# Altium schematic symbol library TSW-116-23-S-S-LL.SchLib: 1 symbol
Pins are listed as number, name and electrical type; pins without a type are passive.

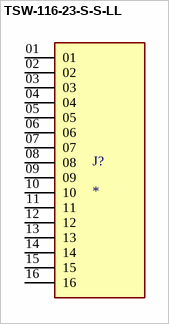
[diagram p0: symbol TSW-116-23-S-S-LL]

## TSW-116-23-S-S-LL
designator J?
MP: TSW-116-23-S-S-LL; Package: None; Price: None; Value: *; Availability: Unavailable
footprint SAMTEC_TSW-116-23-S-S-LL
pins: 01, 02, 03, 04, 05, 06, 07, 08, 09, 10, 11, 12, 13, 14, 15, 16